# EAGLE library part A3916 (library ICs)
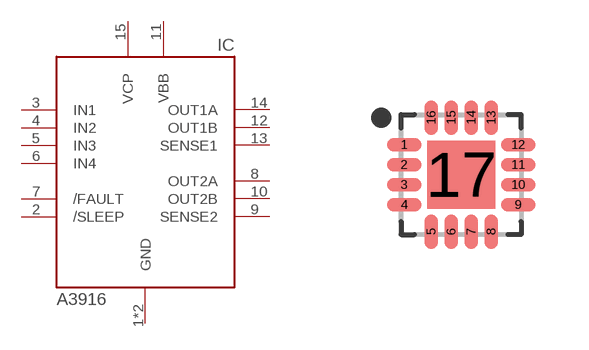
[diagram p5: symbol with the pads of QFN50P300X300X75-17T170; footprint QFN50P300X300X75-17T170]

Designator prefix IC

## A3916  [QFN50P300X300X75-17T170]
1  GND
2  /SLEEP
3  IN1
4  IN2
5  IN3
6  IN4
7  /FAULT
8  OUT2A
9  SENSE2
10  OUT2B
11  VBB
12  OUT1B
13  SENSE1
14  OUT1A
15  VCP
17  GND

## Footprint QFN50P300X300X75-17T170 (pad centres in mm)
16-QFN, 0.50 mm pitch, 3.00 X 3.00 X 0.75 mm body, 1.70 X 1.70 mm thermal pad 16-pin QFN package with 0.50 mm pitch with body size 3.00 X 3.00 X 0.75 mm and thermal pad size 1.70 X 1.70 mm
smd 0.861 x 0.332: 1 -1.426,0.75; 2 -1.426,0.25; 3 -1.426,-0.25; 4 -1.426,-0.75; 9 1.426,-0.75; 10 1.426,-0.25; 11 1.426,0.25; 12 1.426,0.75
smd 0.332 x 0.861: 5 -0.75,-1.426; 6 -0.25,-1.426; 7 0.25,-1.426; 8 0.75,-1.426; 13 0.75,1.426; 14 0.25,1.426; 15 -0.25,1.426; 16 -0.75,1.426
smd 1.7 x 1.7: 17 0,0